# Altium footprint library STSPIN32F0251TR.PcbLib: 1 footprints
Each footprint in its own frame and in the unit in brackets; x right, y up, seen from the top. Pads: shape width x height; smd on the part's side, far side on the other; paste and mask are expansions set on the pad; w line width, h text height; cw(c..) or ccw(c..) is an arc to the next point about the centre after c.
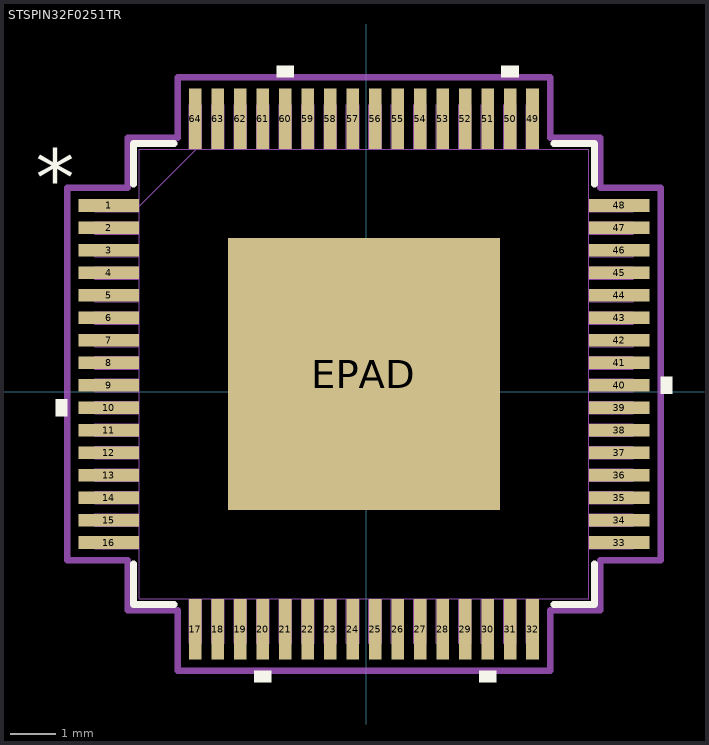
[diagram p0: the footprint, top view; thin cyan lines are the x and y axes]

## STSPIN32F0251TR [mil]
pads (65):
  rect 53x11 smd paste+0: 1(-225.51,163.19) 2(-225.51,143.5) 3(-225.51,123.82) 4(-225.51,104.13) 5(-225.51,84.45) 6(-225.51,64.76) 7(-225.51,45.08) 8(-225.51,25.39) 9(-225.51,5.71) 10(-225.51,-13.98) 11(-225.51,-33.66) 12(-225.51,-53.35) 13(-225.51,-73.03) 14(-225.51,-92.72) 15(-225.51,-112.4) 16(-225.51,-132.09) 33(221.49,-132.09) 34(221.49,-112.4) 35(221.49,-92.72) 36(221.49,-73.03) 37(221.49,-53.35) 38(221.49,-33.66) 39(221.49,-13.98) 40(221.49,5.71) 41(221.49,25.39) 42(221.49,45.08) 43(221.49,64.76) 44(221.49,84.45) 45(221.49,104.13) 46(221.49,123.82) 47(221.49,143.5) 48(221.49,163.19)
  rect 11x53 smd paste+0: 17(-149.65,-207.95) 18(-129.96,-207.95) 19(-110.28,-207.95) 20(-90.59,-207.95) 21(-70.91,-207.95) 22(-51.22,-207.95) 23(-31.54,-207.95) 24(-11.85,-207.95) 25(7.83,-207.95) 26(27.52,-207.95) 27(47.2,-207.95) 28(66.89,-207.95) 29(86.57,-207.95) 30(106.26,-207.95) 31(125.94,-207.95) 32(145.63,-207.95) 49(145.63,239.05) 50(125.94,239.05) 51(106.26,239.05) 52(86.57,239.05) 53(66.89,239.05) 54(47.2,239.05) 55(27.52,239.05) 56(7.83,239.05) 57(-11.85,239.05) 58(-31.54,239.05) 59(-51.22,239.05) 60(-70.91,239.05) 61(-90.59,239.05) 62(-110.28,239.05) 63(-129.96,239.05) 64(-149.65,239.05)
  rect 238x238 smd paste-118.5: EPAD(-2.01,15.55)
Top Overlay:
  region: -262.01,-6.48 -272.01,-6.48 -272.01,-21.48 -262.01,-21.48
  region: -83.09,-244.45 -98.09,-244.45 -98.09,-254.45 -83.09,-254.45
  region: 113.76,-244.45 98.76,-244.45 98.76,-254.45 113.76,-254.45
  region: 257.99,13.21 267.99,13.21 267.99,-1.79 257.99,-1.79
  region: 133.44,275.55 118.44,275.55 118.44,285.55 133.44,285.55
  region: -63.41,275.55 -78.41,275.55 -78.41,285.55 -63.41,285.55
  lines w6: -204.01,-150.69 -204.01,-186.45 -168.25,-186.45 ; -204.01,181.79 -204.01,217.55 -168.25,217.55 ; 164.23,-186.45 199.99,-186.45 199.99,-150.69 ; 164.23,217.55 199.99,217.55 199.99,181.79
  text "*" at -289.51,163.03 h50
Top Paste:
  region: -65.44,130.61 -117.07,130.61 -117.07,78.99 -65.44,78.99
  region: -65.44,71.11 -117.07,71.11 -117.07,19.49 -65.44,19.49
  region: -65.44,11.61 -117.07,11.61 -117.07,-40.01 -65.44,-40.01
  region: -65.44,-47.89 -117.07,-47.89 -117.07,-99.51 -65.44,-99.51
  region: -5.94,130.61 -57.57,130.61 -57.57,78.99 -5.94,78.99
  region: -5.94,71.11 -57.57,71.11 -57.57,19.49 -5.94,19.49
  region: -5.94,11.61 -57.57,11.61 -57.57,-40.01 -5.94,-40.01
  region: -5.94,-47.89 -57.57,-47.89 -57.57,-99.51 -5.94,-99.51
  region: 53.56,130.61 1.93,130.61 1.93,78.99 53.56,78.99
  region: 53.56,71.11 1.93,71.11 1.93,19.49 53.56,19.49
  region: 53.56,11.61 1.93,11.61 1.93,-40.01 53.56,-40.01
  region: 53.56,-47.89 1.93,-47.89 1.93,-99.51 53.56,-99.51
  region: 113.06,130.61 61.43,130.61 61.43,78.99 113.06,78.99
  region: 113.06,71.11 61.43,71.11 61.43,19.49 113.06,19.49
  region: 113.06,11.61 61.43,11.61 61.43,-40.01 113.06,-40.01
  region: 113.06,-47.89 61.43,-47.89 61.43,-99.51 113.06,-99.51
Mechanical 13:
  drawing of 261 lines, arcs and shapes, not listed
  text "*" at -196.51,148.03 h50
Mechanical 15:
  lines w6: -262.01,-147.59 -209.01,-147.59 -209.01,-191.45 -165.15,-191.45 -165.15,-244.45 161.13,-244.45 161.13,-191.45 204.99,-191.45 204.99,-147.59 257.99,-147.59 257.99,178.69 204.99,178.69 204.99,222.55 161.13,222.55 161.13,275.55 -165.15,275.55 -165.15,222.55 -209.01,222.55 -209.01,178.69 -262.01,178.69 -262.01,-147.59
3D body "TQFP64_10X10_STM.step": height 47.09, standoff 0, extent -237.98,-220.43 233.98,251.54
3D body: height 10, standoff 0, extent -2.01,15.55 7.99,25.55